# EAGLE library part MEMS_ICS_43432 (library mems_ics_43432)
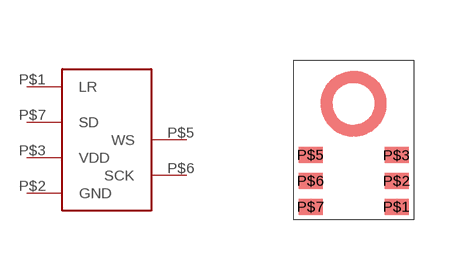
[diagram p0: symbol with the pads of MEMS_ICS_43432; footprint MEMS_ICS_43432]

Designator prefix -

## MEMS_ICS_43432  [MEMS_ICS_43432]
P$1  LR  nc
P$2  GND  in
P$3  VDD  pwr
P$5  WS  in
P$6  SCK  in
P$7  SD  out

## Footprint MEMS_ICS_43432 (pad centres in mm)
smd 0.6 x 0.4: P$1 2.575,0.325; P$2 2.575,0.975; P$3 2.575,1.615; P$5 0.425,1.625; P$6 0.425,0.975; P$7 0.425,0.325